# Altium integrated library BZX85C16.IntLib: 1 symbol
Pins are listed as number, name and electrical type; pins without a type are passive.

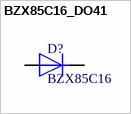
[diagram p0: symbol BZX85C16_DO41]

## BZX85C16_DO41
designator D?, comment BZX85C16
Zener Diode 16V 1W DO41; MF: ON Semiconductor; Package: DO-214 Fairchild Semiconductor; SnapEDA_Link: https://www.snapeda.com/parts/ES1B/ON%20Semiconductor/view-part/560187/?ref=snap; MP: BZX85C16; Value: *; Availability: Unavailable; Price: None
pins: A, K